# Altium schematic symbol library maglib.SchLib: 27 symbols
Pins are listed as number, name and electrical type; pins without a type are passive.

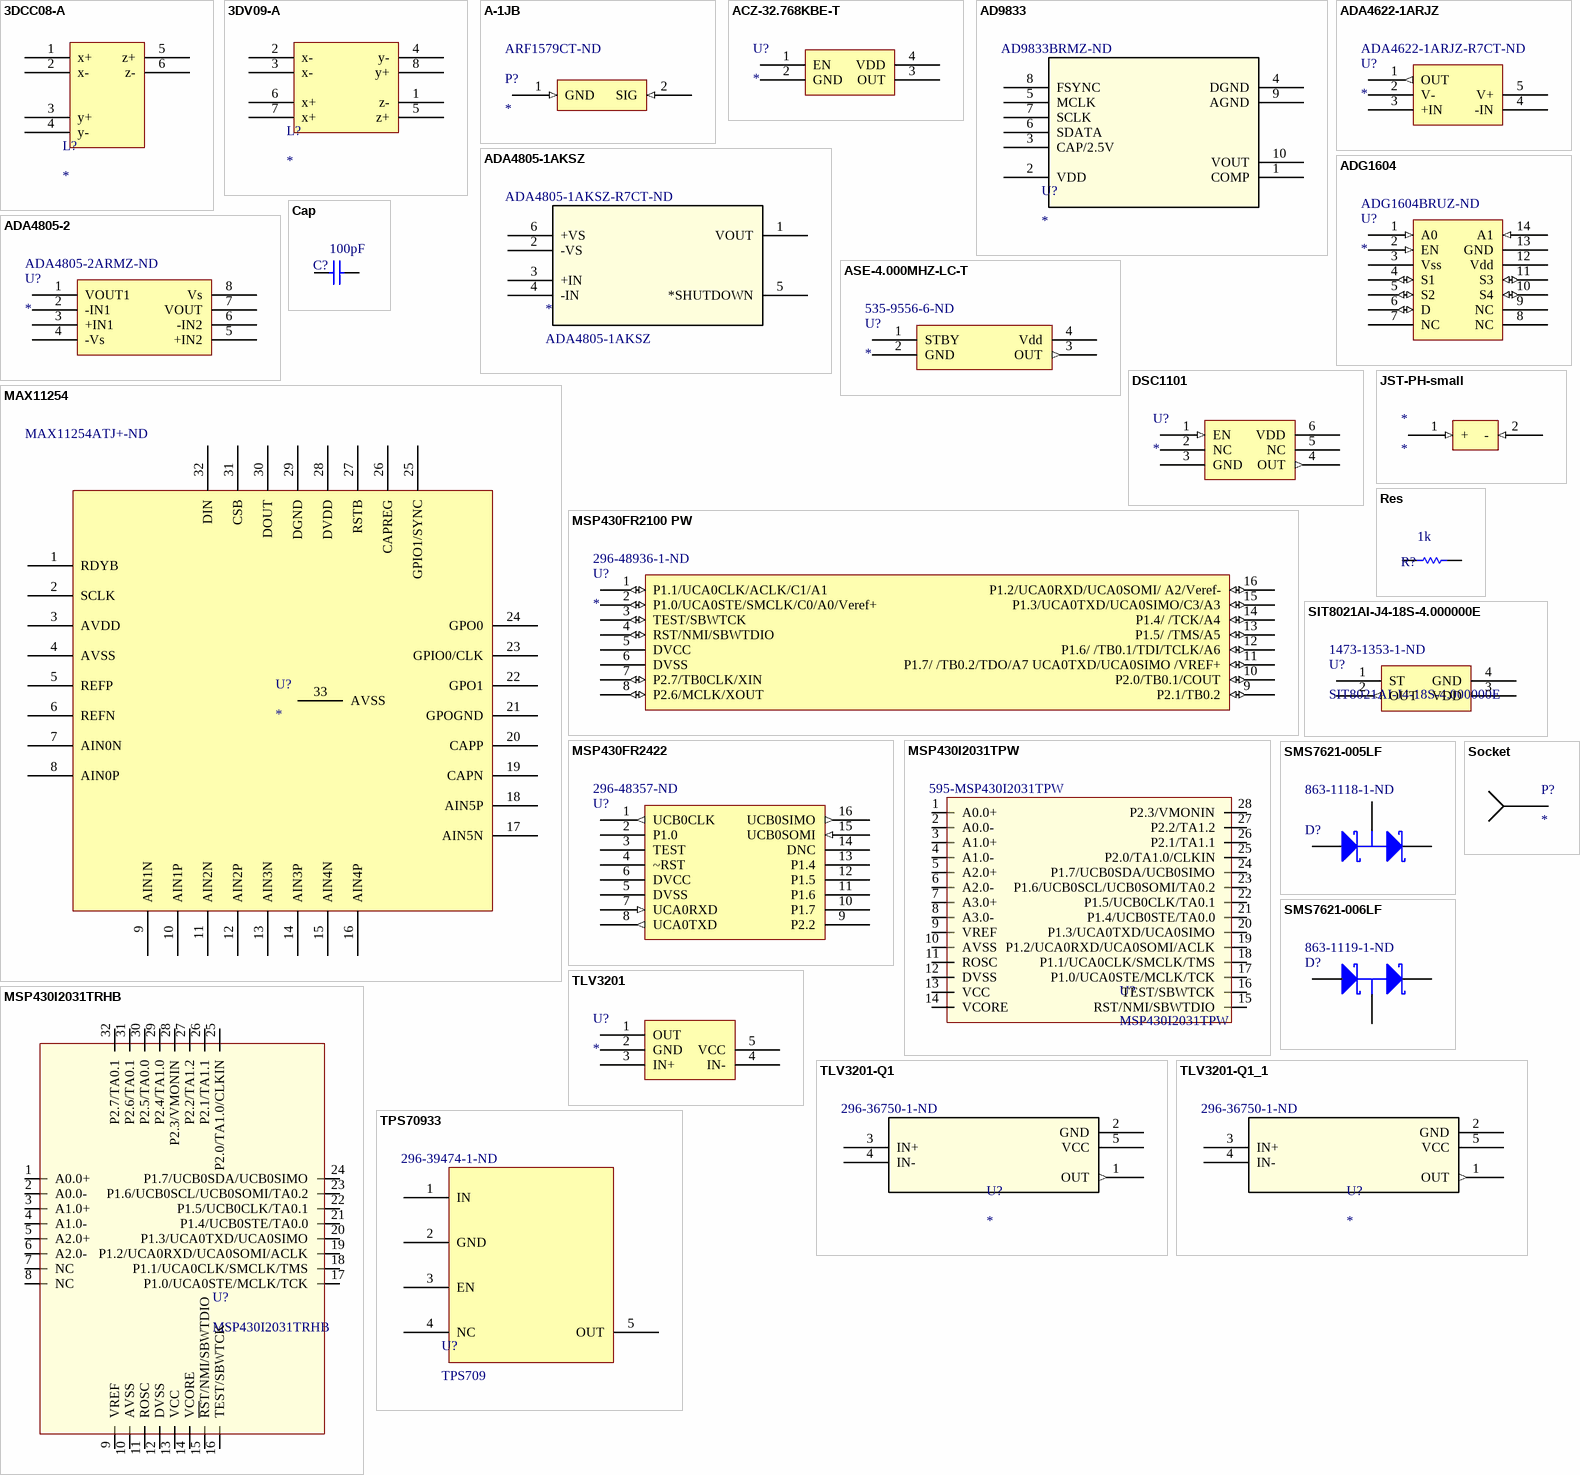
[diagram p0: symbols 3DCC08-A to TPS70933]

## 3DCC08-A
designator L?
ComponentLink1Description: Premo; ComponentLink1URL: https://www.grupopremo.com/618-3dcc08-3d-coil-cube-receiver-sensor-for-vr-magnetic-tracking-system-165x148x118-mm-
footprint 3DCC08-A (premo coil)
footprint 3DCC08-A (premo coil)
pins: 1 x+, 2 x-, 3 y+, 4 y-, 5 z+, 6 z-

## 3DV09-A
designator L?
ComponentLink1Description: Premo; ComponentLink1URL: https://www.grupopremo.com/618-3dcc08-3d-coil-cube-receiver-sensor-for-vr-magnetic-tracking-system-165x148x118-mm-
footprint 3DV09-A (premo coil)
pins: 1 z-, 2 x-, 3 x-, 4 y-, 5 z+, 6 x+, 7 x+, 8 y+

## A-1JB
designator P?  Supplier Part Number 1: ARF1579CT-ND
UMCC Connector; ComponentLink1Description: Datasheet; ComponentLink1URL: https://www.amphenolrf.com/media/downloads/3960/CA-1JB.pdf; ComponentLink2Description: Digi-Key; ComponentLink2URL: https://www.digikey.com/product-detail/en/amphenol-rf-division/A-1JB/ARF1579CT-ND/1196264; Supplier 1: Digi-Key
footprint A-1JB
pins: 1 GND (in), 2 SIG (in)

## ACZ-32.768KBE-T
designator U?
32.768kHz XO (Standard) CMOS Oscillator 3.3V Enable/Disable 4-SMD, No Lead; ComponentLink1Description: Digi-Key; ComponentLink1URL: https://www.digikey.com/product-detail/en/ACZ-32.768KBE-T/887-1670-2-ND/3454688?utm_campaign=buynow&WT.z_cid=ref_octopart_dkc_buynow&utm_medium=aggregator&curr=usd&site=us&utm_source=octopart; ComponentLink2Description: Datasheet; ComponentLink2URL: http://www.txccrystal.com/images/pdf/acz.pdf
footprint ACZ-32.768KBE-T
pins: 1 EN, 2 GND (power), 3 OUT, 4 VDD (power)

## AD9833
designator U?  Supplier Part Number 1: AD9833BRMZ-ND
MSOP-10; Supplier 1: Digi-Key
footprint MSOP-10 (TSSOP, 10-Leads, Body 3.00x3.00mm, Pitch 0.50mm, IPC Medium Density)
pins: 1 COMP, 2 VDD (power), 3 CAP/2.5V (power), 4 DGND, 5 MCLK, 6 SDATA, 7 SCLK, 8 FSYNC, 9 AGND, 10 VOUT

## ADA4622-1ARJZ
designator U?  Supplier Part Number 1: ADA4622-1ARJZ-R7CT-ND
30 V, 8 MHz, Low Bias Current, / Single-Supply, RRO, Precision Op Amps; ComponentLink1Description: Datasheet; ComponentLink1URL: http://www.analog.com/media/en/technical-documentation/data-sheets/ada4622-1-4622-2-4622-4.pdf; Supplier 1: Digi-Key
footprint SOT95P280X145-5N (SOT23, 5-Leads, Body 2.90x2.80mm, Pitch 0.95mm, IPC Medium Density)
pins: 1 OUT (out), 2 V- (power), 3 +IN, 4 -IN, 5 V+ (power)

## ADA4805-1AKSZ
designator *  Supplier Part Number 1: ADA4805-1AKSZ-R7CT-ND
0.2 µV/°C Offset Drift, 105 MHz Low Power, / Low Noise, Rail-to-Rail Amplifiers; Supplier 1: Digi-Key
footprint ADA4805-1 (General Purpose Amplifier 1 Circuit Rail-to-Rail 6-SOT23)
footprint TSOP65P210X110-6N (TSOP, 6-Leads, Body 2.00x1.25mm, Pitch 0.65mm, IPC Medium Density)
pins: 1 VOUT, 2 -VS, 3 +IN, 4 -IN, 5 *SHUTDOWN, 6 +VS

## ADA4805-2
designator U?  Supplier Part Number 1: ADA4805-2ARMZ-ND
ComponentLink1Description: Datasheet; ComponentLink1URL: http://www.analog.com/media/en/technical-documentation/data-sheets/ADA4805-1_4805-2.pdf; ComponentLink2Description: Digi-Key; ComponentLink2URL: https://www.digikey.com/product-detail/en/analog-devices-inc/ADA4805-2ARMZ/ADA4805-2ARMZ-ND/5031769; Supplier 1: Digi-Key
footprint TSOP65P490X110-8N (TSOP, 8-Leads, Body 3.00x3.00mm, Pitch 0.65mm, IPC Medium Density)
pins: 1 VOUT1, 2 -IN1, 3 +IN1, 4 -Vs (power), 5 +IN2 (power), 6 -IN2, 7 VOUT, 8 Vs

## ADG1604
designator U?  Supplier Part Number 1: ADG1604BRUZ-ND
Supplier 1: Digi-Key
footprint TSSOP-14 (TSOP, 14-Leads, Body 5.00x4.40mm, Pitch 0.65mm, IPC Medium Density)
pins: 1 A0 (in), 2 EN (in), 3 Vss (power), 4 S1 (io), 5 S2 (io), 6 D (io), 7 NC, 8 NC, 9 NC, 10 S4 (io), 11 S3 (io), 12 Vdd (power), 13 GND (power), 14 A1 (in)

## ASE-4.000MHZ-LC-T
designator U?  Supplier Part Number 1: 535-9556-6-ND
4 MHz SMD Oscillator; Supplier 1: Digi-Key
footprint DFN165P250X120-4N (DFN, 4-Leads, Body 3.20x2.50mm, Pitch 1.65mm, IPC Medium Density)
pins: 1 STBY, 2 GND (power), 3 OUT (out), 4 Vdd (power)

## Cap
designator C?  value 100pF  (hidden comment: Cap)
Ceramic Capacitor (Surface Mount); Manufacturer: Generic Ceramic Chip Cap (TBD); Digi-Key Part Number: *; Manufacturer Part Number: *; Note: *; Rating: *
footprint 0402 (Surface Mount; Body 1 x 0.5 mm (LxW typ))
footprint 0402-W (Surface Mount - Wide; Body 1.0 x 0.5 mm (LxW typ))
footprint 0603 (Surface Mount; Body 1.6 x 0.8 mm (LxW typ))
footprint 0603-W (Surface Mount - Wide; Body 1.6 x 0.8 mm (LxW typ))
footprint 0805 (Surface Mount; Body 2.0 x 1.25 mm (LxW typ))
footprint 0805-W (Surface Mount - Wide; Body 2.0 x 1.25 mm (LxW typ))
footprint 1206 (Surface Mount; Body 3.2 x 1.6 mm (LxW typ))
footprint 1206-W (Surface Mount - Wide; Body 3.2 x 1.6 mm (LxW typ))
footprint 1210 (Surface Mount; Body 3.2 x 2.5 mm (LxW typ))
footprint 1210-W (Chip Capacitor; Body 3.2 x 2.5 mm (LxW typ))
pins: 1, 2

## DSC1101
designator U?
ComponentLink1Description: Datasheet; ComponentLink1URL: http://ww1.microchip.com/downloads/en/DeviceDoc/20005613B.pdf; ComponentLink2Description: Digi-Key; ComponentLink2URL: https://www.digikey.com/product-detail/en/microchip-technology/DSC1101CI5-010.0000T/DSC1101CI5-010.0000TCT-ND/8639440
footprint VDFN
pins: 1 EN (in), 2 NC, 3 GND (power), 4 OUT (out), 5 NC, 6 VDD (power)

## JST-PH-small
designator *
footprint JST-PH-small
pins: 1 + (in), 2 - (in)

## MAX11254
designator U?  Supplier Part Number 1: MAX11254ATJ+-ND
Manufacturer: Maxim; Manufacturer Part Number: MAX11254ATJ+; Number of Bits: 24; Sampling Rate: 64000S/s; Interface: SPI; Number of A/D Converters: 1; Number of Inputs: 6; Min Supply Voltage: 2.7V; Max Supply Voltage: 3.6V; Resolution: 24b; Supplier 1: Digi-Key; Stock 1: 471; Pricing 1: 1=6.57, 10=6.242, 25=5.66, 50=5.648 (USD); Number of Pins: 32; Min Operating Temperature: -40°C; Max Operating Temperature: 125°C; Packaging: Rail/Tube; REACH SVHC: Unknown
footprint MAX11254-QFN5-33N
pins: 1 RDYB, 2 SCLK, 3 AVDD (power), 4 AVSS (power), 5 REFP (power), 6 REFN (power), 7 AIN0N, 8 AIN0P, 9 AIN1N, 10 AIN1P, 11 AIN2N, 12 AIN2P, 13 AIN3N, 14 AIN3P, 15 AIN4N, 16 AIN4P, 17 AIN5N, 18 AIN5P, 19 CAPN, 20 CAPP, 21 GPOGND, 22 GPO1, 23 GPIO0/CLK, 24 GPO0, 25 GPIO1/SYNC, 26 CAPREG, 27 RSTB, 28 DVDD, 29 DGND, 30 DOUT, 31 CSB, 32 DIN, 33 AVSS (power)

## MSP430FR2100 PW
designator U?  Supplier Part Number 1: 296-48936-1-ND
ComponentLink1Description: Datasheet; ComponentLink1URL: http://www.ti.com/lit/ds/symlink/msp430fr2100.pdf; ComponentLink2Description: DigiKey; ComponentLink2URL: https://www.digikey.com/product-detail/en/texas-instruments/MSP430FR2100IPW16R/296-48936-1-ND/8634999; Supplier 1: Digi-Key
footprint TSOP65P640X120-16N (TSOP, 16-Leads, Body 5.00x4.40mm, Pitch 0.65mm, IPC Medium Density)
pins: 1 P1.1/UCA0CLK/ACLK/C1/A1 (io), 2 P1.0/UCA0STE/SMCLK/C0/A0/Veref+ (io), 3 TEST/SBWTCK (io), 4 RST/NMI/SBWTDIO (io), 5 DVCC (power), 6 DVSS (power), 7 P2.7/TB0CLK/XIN (io), 8 P2.6/MCLK/XOUT (io), 9 P2.1/TB0.2 (io), 10 P2.0/TB0.1/COUT (io), 11 P1.7/ /TB0.2/TDO/A7 UCA0TXD/UCA0SIMO /VREF+ (io), 12 P1.6/ /TB0.1/TDI/TCLK/A6 (io), 13 P1.5/ /TMS/A5 (io), 14 P1.4/ /TCK/A4 (io), 15 P1.3/UCA0TXD/UCA0SIMO/C3/A3 (io), 16 P1.2/UCA0RXD/UCA0SOMI/ A2/Veref- (io)

## MSP430FR2422
designator U?  Supplier Part Number 1: 296-48357-ND  (hidden comment: *)
MSP430FR2422 Mixed-Signal Microcontroller; Supplier 1: Digi-Key
footprint TSOP65P640X120-16N (TSOP, 16-Leads, Body 5.00x4.40mm, Pitch 0.65mm, IPC Medium Density)
pins: 1 UCB0CLK (out), 2 P1.0, 3 TEST, 4 ~RST, 5 DVSS (power), 6 DVCC (power), 7 UCA0RXD (in), 8 UCA0TXD (out), 9 P2.2, 10 P1.7, 11 P1.6, 12 P1.5, 13 P1.4, 14 DNC, 15 UCB0SOMI (in), 16 UCB0SIMO (out)

## MSP430I2031TPW
designator U?  Supplier Part Number 1: 595-MSP430I2031TPW
Supplier 1: Mouser
footprint MSP430i-TSOP-28N (TSOP, 28-Leads, Body 9.70x4.40mm, Pitch 0.65mm, IPC Medium Density)
pins: 1 A0.0+, 2 A0.0-, 3 A1.0+, 4 A1.0-, 5 A2.0+, 6 A2.0-, 7 A3.0+, 8 A3.0-, 9 VREF, 10 AVSS, 11 ROSC, 12 DVSS, 13 VCC, 14 VCORE, 15  RST/NMI/SBWTDIO, 16 TEST/SBWTCK, 17 P1.0/UCA0STE/MCLK/TCK, 18 P1.1/UCA0CLK/SMCLK/TMS, 19 P1.2/UCA0RXD/UCA0SOMI/ACLK, 20 P1.3/UCA0TXD/UCA0SIMO, 21 P1.4/UCB0STE/TA0.0, 22 P1.5/UCB0CLK/TA0.1, 23 P1.6/UCB0SCL/UCB0SOMI/TA0.2, 24 P1.7/UCB0SDA/UCB0SIMO, 25 P2.0/TA1.0/CLKIN, 26 P2.1/TA1.1, 27 P2.2/TA1.2, 28 P2.3/VMONIN

## MSP430I2031TRHB
designator U?
footprint QFN50P500X500X100_HS-33N (QFN, 32-Leads, Body 5.00x5.00mm, Pitch 0.50mm, Thermal Pad 2.10x2.10mm, IPC Medium Density)
pins: 1 A0.0+, 2 A0.0-, 3 A1.0+, 4 A1.0-, 5 A2.0+, 6 A2.0-, 7 NC, 8 NC, 9 VREF, 10 AVSS, 11 ROSC, 12 DVSS, 13 VCC, 14 VCORE, 15 ~{RS}T/NMI/SBWTDIO, 16 TEST/SBWTCK, 17 P1.0/UCA0STE/MCLK/TCK, 18 P1.1/UCA0CLK/SMCLK/TMS, 19 P1.2/UCA0RXD/UCA0SOMI/ACLK, 20 P1.3/UCA0TXD/UCA0SIMO, 21 P1.4/UCB0STE/TA0.0, 22 P1.5/UCB0CLK/TA0.1, 23 P1.6/UCB0SCL/UCB0SOMI/TA0.2, 24 P1.7/UCB0SDA/UCB0SIMO, 25 P2.0/TA1.0/CLKIN, 26 P2.1/TA1.1, 27 P2.2/TA1.2, 28 P2.3/VMONIN, 29 P2.4/TA1.0, 30 P2.5/TA0.0, 31 P2.6/TA0.1, 32 P2.7/TA0.1

## Res
designator R?  value 1k  (hidden comment: Res)
Chip Resistor (Surface Mount); Manufacturer: Generic Chip Res (TBD); Manufacturer Part Number: *; Digi-Key Part Number: *; Rating: *
footprint 0402 (Surface Mount; Body 1 x 0.5 mm (LxW typ))
footprint 0402-W (Surface Mount - Wide; Body 1.0 x 0.5 mm (LxW typ))
footprint 0603 (Surface Mount; Body 1.6 x 0.8 mm (LxW typ))
footprint 0603-W (Surface Mount - Wide; Body 1.6 x 0.8 mm (LxW typ))
footprint 0805 (Surface Mount; Body 2.0 x 1.25 mm (LxW typ))
footprint 0805-W (Surface Mount - Wide; Body 2.0 x 1.25 mm (LxW typ))
footprint 1206 (Surface Mount; Body 3.2 x 1.6 mm (LxW typ))
footprint 1206-W (Surface Mount - Wide; Body 3.2 x 1.6 mm (LxW typ))
footprint 1210 (Surface Mount; Body 3.2 x 2.5 mm (LxW typ))
footprint 1210-W (Chip Capacitor; Body 3.2 x 2.5 mm (LxW typ))
pins: 1, 2

## SIT8021AI-J4-18S-4.000000E
designator U?  Supplier Part Number 1: 1473-1353-1-ND
4 MHz low power oscillator; Supplier 1: Digi-Key
footprint SiT8021 - BGA4C100P2X2_154X84X60 (BGA, 4-Leads, Body 1.54x0.84mmx0.60mm, Pitch 1.00mm)
pins: 1 ST, 2 OUT (out), 3 VDD (power), 4 GND (power)

## SMS7621-005LF
designator D?  Supplier Part Number 1: 863-1118-1-ND
Supplier 1: Digi-Key
footprint SOT23 - N (SOT23, 3-Leads, Body 2.9x1.3mm, Pitch 0.95mm, Lead Span 2.3mm - Reverse Pinning, IPC Medium Density)
footprint SOT23-3N (SMS7621)
pins: 1 A, 2 K, 3 C

## SMS7621-006LF
designator D?  Supplier Part Number 1: 863-1119-1-ND
Supplier 1: Digi-Key
footprint SOT23 - N (SOT23, 3-Leads, Body 2.9x1.3mm, Pitch 0.95mm, Lead Span 2.3mm - Reverse Pinning, IPC Medium Density)
footprint SOT23-3N (SMS7621)
pins: 1 A, 2 K, 3 C

## Socket
designator P?
footprint socket
pins: 0

## TLV3201
designator U?
ComponentLink1Description: Datasheet; ComponentLink1URL: http://www.ti.com/lit/ds/symlink/tlv3202-q1.pdf
footprint SOT65P210X110-5N (SOT23, 5-Leads, Body 2.00x2.10mm, Pitch 0.65mm, IPC Medium Density)
pins: 1 OUT, 2 GND (power), 3 IN+, 4 IN-, 5 VCC (power)

## TLV3201-Q1
designator U?  Supplier Part Number 1: 296-36750-1-ND
40-ns, Micropower Comparator; Supplier 1: Digi-Key
footprint SOT95P280X145-5N (SOT23, 5-Leads, Body 2.90x2.80mm, Pitch 0.95mm, IPC Medium Density)
pins: 1 OUT (out), 2 GND (power), 3 IN+, 4 IN-, 5 VCC (power)

## TLV3201-Q1_1
designator U?  Supplier Part Number 1: 296-36750-1-ND
40-ns, Micropower Comparator; Supplier 1: Digi-Key
footprint SOT95P280X145-5N (SOT23, 5-Leads, Body 2.90x2.80mm, Pitch 0.95mm, IPC Medium Density)
pins: 1 OUT (out), 2 GND (power), 3 IN+, 4 IN-, 5 VCC (power)

## TPS70933
designator U?, comment TPS709  Supplier Part Number 1: 296-39474-1-ND
3.3V Ultra low power Voltage Regulator; Supplier 1: Digi-Key
footprint SOT95P280X145-5N (SOT23, 5-Leads, Body 2.90x2.80mm, Pitch 0.95mm, IPC Medium Density)
pins: 1 IN, 2 GND, 3 EN, 4 NC, 5 OUT